# Altium footprint library 91A1A-B28.PcbLib: 1 footprints
Each footprint in its own frame and in the unit in brackets; x right, y up, seen from the top. Pads: shape width x height; smd on the part's side, far side on the other; paste and mask are expansions set on the pad; w line width, h text height; cw(c..) or ccw(c..) is an arc to the next point about the centre after c.
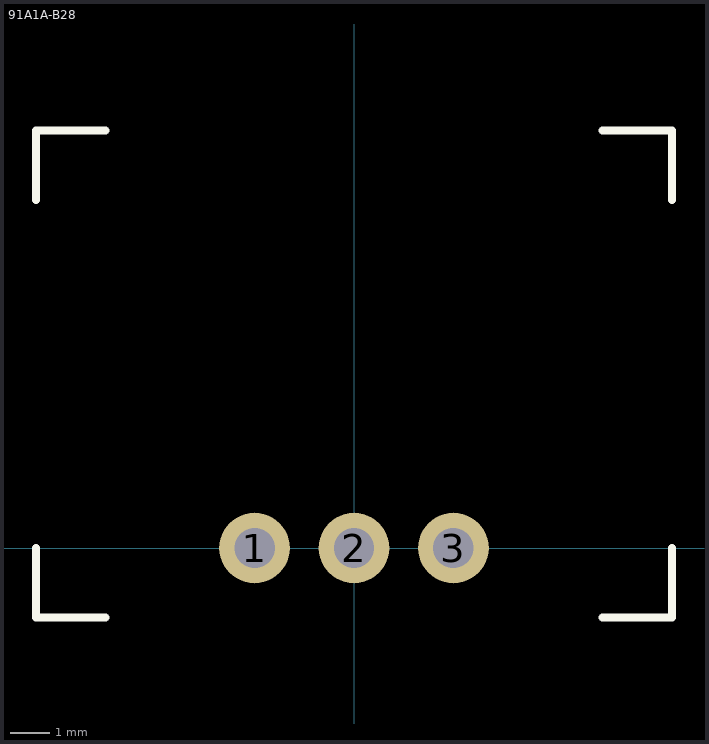
[diagram p0: the footprint, top view; thin cyan lines are the x and y axes]

## 91A1A-B28 [mil] "Bourns Potentiometer"
pads (3):
  round 70 hole 40: 1(-98.43,0) 2(0,0) 3(98.43,0)
Top Overlay:
  lines w7.87: -314.96,0 -314.96,-68.9 -246.06,-68.9 ; -314.96,344.49 -314.96,413.39 -246.06,413.39 ; 246.06,-68.9 314.96,-68.9 314.96,0 ; 246.06,413.39 314.96,413.39 314.96,344.49
3D body "91A1A-B28.stp": height 687, standoff -600, extent -312.5,-65 312.5,1310